# Altium integrated library Maxim Digital Potentiometers.IntLib: 1045 symbols (part 15 of 42)
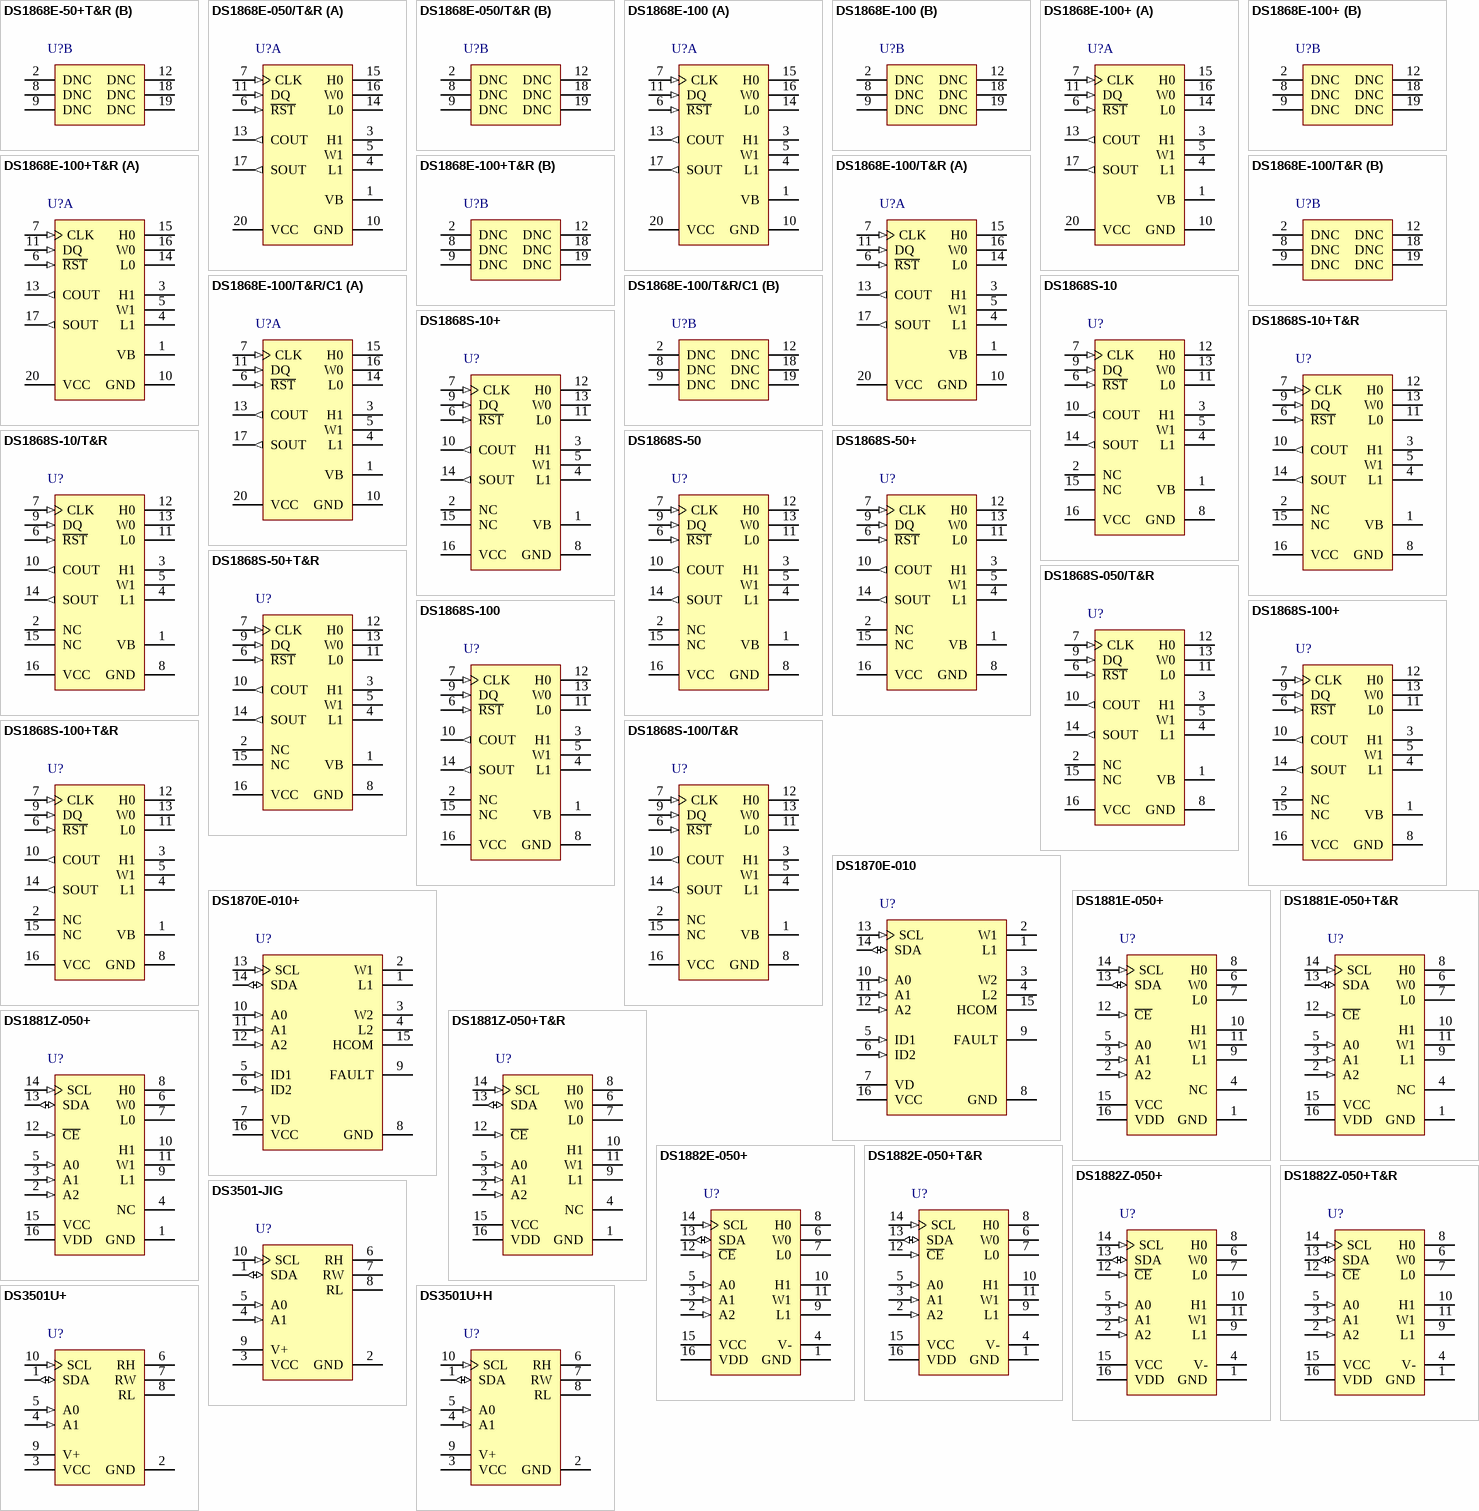
[diagram p43: symbols DS1868E-50+T&R to DS3501U+H]

## DS1881E-050+
designator U?
Dual, Audio Log Digital Potentiometer with I2C Control Interface, Non-Volatile, Log Taper, 64 Steps, -40 to 85 degC, 16-pin TSSOP (U16+1), Pb-Free; PartNumber: DS1881E-050+; DatasheetVersion: Rev. 0; PackageVersion: Rev. L, 07/2010; PackageReference: U16+1; PackageDescription: 16-Pin Thin Shrink Small-Outline Package (U16+1), Body 5 x 4.4 mm, Pitch 0.65 mm; Supplier 1: Digi-Key; Supplier Part Number 1: DS1881E-050+-ND; Supplier 2: Mouser; Supplier Part Number 2: 700-DS1881E-050; Applications: Audio Control, Car Stereo ,Notebook and PC Audio ,Portable Audio; Control Interface: I2C; Features: EEPROM Wiper Memory, Low THD+N and Crosstalk ,User-Configurable Attenuation Options ,Zero-Crossing Detector; Mounting Technology: Surface Mount; Code_JEDEC: MO-153; ComponentLink1Description: Manufacturer URL; ComponentLink1URL: http://www.maximintegrated.com/; ComponentLink2Description: Datasheet; ComponentLink2URL: http://datasheets.maximintegrated.com/en/ds/DS1881.pdf; ComponentLink3Description: Package Specification; ComponentLink3URL: http://pdfserv.maximintegrated.com/package_dwgs/21-0066.PDF
footprint MAXM-U16+1_N (SOP, 16-Leads, Body 5x4.4mm, Pitch 0.65mm, IPC Medium Density)
footprint MAXM-U16+1_L (SOP, 16-Leads, Body 5x4.4mm, Pitch 0.65mm, IPC High Density)
footprint MAXM-U16+1_M (SOP, 16-Leads, Body 5x4.4mm, Pitch 0.65mm, IPC Low Density)
pins: 1 GND (power) "Ground", 2 A2 (in) "I2C Address Inputs. Inputs A0, A1, and A2 determine the I2C slave address of the device.", 3 A1 (in) "I2C Address Inputs. Inputs A0, A1, and A2 determine the I2C slave address of the device.", 4 NC "No Connection", 5 A0 (in) "I2C Address Input. Inputs A0, A1, and A2 determine the I2C slave address of the device.", 6 W0 "Wiper Terminal for Potentiometer 0", 7 L0 "Low Terminal for Potentiometer 0", 8 H0 "High Terminal for Potentiometer 0", 9 L1 "Low Terminal for Potentiometer 1", 10 H1 "High Terminal for Potentiometer 1", 11 W1 "Wiper Terminal for Potentiometer 1", 12 ~{CE} (in) "Chip Enable. Enables SDA and SCL pins for I2C communication.", 13 SDA (io) "I2C Serial-Data Open-Drain I/O", 14 SCL (in) "I2C Serial-Clock Input", 15 VCC (power) "Analog Voltage Supply", 16 VDD (power) "Digital Voltage Supply"

## DS1881E-050+T&R
designator U?
Dual, Audio Log Digital Potentiometer with I2C Control Interface, Non-Volatile, Log Taper, 64 Steps, -40 to 85 degC, 16-pin TSSOP (U16+1), Pb-Free, Tape and Reel; PartNumber: DS1881E-050+T&R; DatasheetVersion: Rev. 0; PackageVersion: Rev. L, 07/2010; PackageReference: U16+1; PackageDescription: 16-Pin Thin Shrink Small-Outline Package (U16+1), Body 5 x 4.4 mm, Pitch 0.65 mm; Supplier 1: Digi-Key; Supplier Part Number 1: DS1881E-050+T&R-ND; Supplier 2: Mouser; Supplier Part Number 2: 700-DS1881E-050T&R; Applications: Audio Control, Car Stereo ,Notebook and PC Audio ,Portable Audio; Control Interface: I2C; Features: EEPROM Wiper Memory, Low THD+N and Crosstalk ,User-Configurable Attenuation Options ,Zero-Crossing Detector; Mounting Technology: Surface Mount; Code_JEDEC: MO-153; ComponentLink1Description: Manufacturer URL; ComponentLink1URL: http://www.maximintegrated.com/; ComponentLink2Description: Datasheet; ComponentLink2URL: http://datasheets.maximintegrated.com/en/ds/DS1881.pdf; ComponentLink3Description: Package Specification; ComponentLink3URL: http://pdfserv.maximintegrated.com/package_dwgs/21-0066.PDF
footprint MAXM-U16+1_N (SOP, 16-Leads, Body 5x4.4mm, Pitch 0.65mm, IPC Medium Density)
footprint MAXM-U16+1_L (SOP, 16-Leads, Body 5x4.4mm, Pitch 0.65mm, IPC High Density)
footprint MAXM-U16+1_M (SOP, 16-Leads, Body 5x4.4mm, Pitch 0.65mm, IPC Low Density)
pins: 1 GND (power) "Ground", 2 A2 (in) "I2C Address Inputs. Inputs A0, A1, and A2 determine the I2C slave address of the device.", 3 A1 (in) "I2C Address Inputs. Inputs A0, A1, and A2 determine the I2C slave address of the device.", 4 NC "No Connection", 5 A0 (in) "I2C Address Input. Inputs A0, A1, and A2 determine the I2C slave address of the device.", 6 W0 "Wiper Terminal for Potentiometer 0", 7 L0 "Low Terminal for Potentiometer 0", 8 H0 "High Terminal for Potentiometer 0", 9 L1 "Low Terminal for Potentiometer 1", 10 H1 "High Terminal for Potentiometer 1", 11 W1 "Wiper Terminal for Potentiometer 1", 12 ~{CE} (in) "Chip Enable. Enables SDA and SCL pins for I2C communication.", 13 SDA (io) "I2C Serial-Data Open-Drain I/O", 14 SCL (in) "I2C Serial-Clock Input", 15 VCC (power) "Analog Voltage Supply", 16 VDD (power) "Digital Voltage Supply"

## DS1881Z-050+
designator U?
Dual, Audio Log Digital Potentiometer with I2C Control Interface, Non-Volatile, Log Taper, 64 Steps, -40 to 85 degC, 16-pin SOIC(N) (S16+5), Pb-Free; PartNumber: DS1881Z-050+; DatasheetVersion: Rev. 0; PackageVersion: Rev. D, 10/2012; PackageReference: S16+5; PackageDescription: 16-Pin Small-Outline IC, Narrow (0.15in) (S16+5), Body 9.9 x 3.9 mm, Pitch 1.27 mm; Supplier 1: Digi-Key; Supplier Part Number 1: DS1881Z-050+-ND; Supplier 2: Mouser; Supplier Part Number 2: 700-DS1881Z-050; Applications: Audio Control, Car Stereo ,Notebook and PC Audio ,Portable Audio; Control Interface: I2C; Features: EEPROM Wiper Memory, Low THD+N and Crosstalk ,User-Configurable Attenuation Options ,Zero-Crossing Detector; Mounting Technology: Surface Mount; Code_JEDEC: MS012; ComponentLink1Description: Manufacturer URL; ComponentLink1URL: http://www.maximintegrated.com/; ComponentLink2Description: Datasheet; ComponentLink2URL: http://datasheets.maximintegrated.com/en/ds/DS1881.pdf; ComponentLink3Description: Package Specification; ComponentLink3URL: http://pdfserv.maximintegrated.com/package_dwgs/21-0041.PDF
footprint MAXM-S16+5_N (SOIC, 16-Leads, Body 9.9x3.9mm, Pitch 1.27mm, IPC Medium Density)
footprint MAXM-S16+5_L (SOIC, 16-Leads, Body 9.9x3.9mm, Pitch 1.27mm, IPC High Density)
footprint MAXM-S16+5_M (SOIC, 16-Leads, Body 9.9x3.9mm, Pitch 1.27mm, IPC Low Density)
pins: 1 GND (power) "Ground", 2 A2 (in) "I2C Address Inputs. Inputs A0, A1, and A2 determine the I2C slave address of the device.", 3 A1 (in) "I2C Address Inputs. Inputs A0, A1, and A2 determine the I2C slave address of the device.", 4 NC "No Connection", 5 A0 (in) "I2C Address Input. Inputs A0, A1, and A2 determine the I2C slave address of the device.", 6 W0 "Wiper Terminal for Potentiometer 0", 7 L0 "Low Terminal for Potentiometer 0", 8 H0 "High Terminal for Potentiometer 0", 9 L1 "Low Terminal for Potentiometer 1", 10 H1 "High Terminal for Potentiometer 1", 11 W1 "Wiper Terminal for Potentiometer 1", 12 ~{CE} (in) "Chip Enable. Enables SDA and SCL pins for I2C communication.", 13 SDA (io) "I2C Serial-Data Open-Drain I/O", 14 SCL (in) "I2C Serial-Clock Input", 15 VCC (power) "Analog Voltage Supply", 16 VDD (power) "Digital Voltage Supply"

## DS1881Z-050+T&R
designator U?
Dual, Audio Log Digital Potentiometer with I2C Control Interface, Non-Volatile, Log Taper, 64 Steps, -40 to 85 degC, 16-pin SOIC(N) (S16+5), Pb-Free, Tape and Reel; PartNumber: DS1881Z-050+T&R; DatasheetVersion: Rev. 0; PackageVersion: Rev. D, 10/2012; PackageReference: S16+5; PackageDescription: 16-Pin Small-Outline IC, Narrow (0.15in) (S16+5), Body 9.9 x 3.9 mm, Pitch 1.27 mm; Supplier 1: Digi-Key; Supplier Part Number 1: DS1881Z-050+T&R-ND; Supplier 2: Mouser; Supplier Part Number 2: 700-DS1881Z-050T&R; Applications: Audio Control, Car Stereo ,Notebook and PC Audio ,Portable Audio; Control Interface: I2C; Features: EEPROM Wiper Memory, Low THD+N and Crosstalk ,User-Configurable Attenuation Options ,Zero-Crossing Detector; Mounting Technology: Surface Mount; Code_JEDEC: MS012; ComponentLink1Description: Manufacturer URL; ComponentLink1URL: http://www.maximintegrated.com/; ComponentLink2Description: Datasheet; ComponentLink2URL: http://datasheets.maximintegrated.com/en/ds/DS1881.pdf; ComponentLink3Description: Package Specification; ComponentLink3URL: http://pdfserv.maximintegrated.com/package_dwgs/21-0041.PDF
footprint MAXM-S16+5_N (SOIC, 16-Leads, Body 9.9x3.9mm, Pitch 1.27mm, IPC Medium Density)
footprint MAXM-S16+5_L (SOIC, 16-Leads, Body 9.9x3.9mm, Pitch 1.27mm, IPC High Density)
footprint MAXM-S16+5_M (SOIC, 16-Leads, Body 9.9x3.9mm, Pitch 1.27mm, IPC Low Density)
pins: 1 GND (power) "Ground", 2 A2 (in) "I2C Address Inputs. Inputs A0, A1, and A2 determine the I2C slave address of the device.", 3 A1 (in) "I2C Address Inputs. Inputs A0, A1, and A2 determine the I2C slave address of the device.", 4 NC "No Connection", 5 A0 (in) "I2C Address Input. Inputs A0, A1, and A2 determine the I2C slave address of the device.", 6 W0 "Wiper Terminal for Potentiometer 0", 7 L0 "Low Terminal for Potentiometer 0", 8 H0 "High Terminal for Potentiometer 0", 9 L1 "Low Terminal for Potentiometer 1", 10 H1 "High Terminal for Potentiometer 1", 11 W1 "Wiper Terminal for Potentiometer 1", 12 ~{CE} (in) "Chip Enable. Enables SDA and SCL pins for I2C communication.", 13 SDA (io) "I2C Serial-Data Open-Drain I/O", 14 SCL (in) "I2C Serial-Clock Input", 15 VCC (power) "Analog Voltage Supply", 16 VDD (power) "Digital Voltage Supply"

## DS1882E-050+
designator U?
Dual Log Audio Digital Potentiometer with I2C Control Interface, Non-Volatile, Log Taper, 64 Steps, -40 to 85 degC, 16-pin TSSOP (U16+1), Pb-Free; PartNumber: DS1882E-050+; Industry Qualified: Automotive - General; DatasheetVersion: Rev. 0; PackageVersion: Rev. L, 07/2010; PackageReference: U16+1; PackageDescription: 16-Pin Thin Shrink Small-Outline Package (U16+1), Body 5 x 4.4 mm, Pitch 0.65 mm; Supplier 1: Digi-Key; Supplier Part Number 1: DS1882E-050+-ND; Supplier 2: Mouser; Supplier Part Number 2: 700-DS1882E-050; Applications: Audio Control, Car Stereo ,Notebook and PC Audio ,Portable Audio ,Portable Consumer; Control Interface: I2C; Features: +/-7V Signal Levels, EEPROM Wiper Memory ,Low THD+N and Crosstalk ,User-Configurable Attenuation Options ,Zero-Crossing Detector; Mounting Technology: Surface Mount; Code_JEDEC: MO-153; ComponentLink1Description: Manufacturer URL; ComponentLink1URL: http://www.maximintegrated.com/; ComponentLink2Description: Datasheet; ComponentLink2URL: http://datasheets.maximintegrated.com/en/ds/DS1882.pdf; ComponentLink3Description: Package Specification; ComponentLink3URL: http://pdfserv.maximintegrated.com/package_dwgs/21-0066.PDF
footprint MAXM-U16+1_N (SOP, 16-Leads, Body 5x4.4mm, Pitch 0.65mm, IPC Medium Density)
footprint MAXM-U16+1_L (SOP, 16-Leads, Body 5x4.4mm, Pitch 0.65mm, IPC High Density)
footprint MAXM-U16+1_M (SOP, 16-Leads, Body 5x4.4mm, Pitch 0.65mm, IPC Low Density)
pins: 1 GND (power) "Ground", 2 A2 (in) "Address Pin", 3 A1 (in) "Address Pin", 4 V- (power) "-12V Supply (substrate bias)", 5 A0 (in) "Address Pin", 6 W0 "Wiper Terminals", 7 L0 "Low-end Terminals", 8 H0 "High-end Terminals", 9 L1 "Low-end Terminals", 10 H1 "High-end Terminals", 11 W1 "Wiper Terminals", 12 ~{CE} (in) "2-Wire Interface Enable", 13 SDA (io) "2-Wire Serial Data Input/Output", 14 SCL (in) "2-Wire Clock Input", 15 VCC (power) "+12V Supply", 16 VDD (power) "5V Digital Supply"

## DS1882E-050+T&R
designator U?
Dual Log Audio Digital Potentiometer with I2C Control Interface, Non-Volatile, Log Taper, 64 Steps, -40 to 85 degC, 16-pin TSSOP (U16+1), Pb-Free, Tape and Reel; PartNumber: DS1882E-050+T&R; Industry Qualified: Automotive - General; DatasheetVersion: Rev. 0; PackageVersion: Rev. L, 07/2010; PackageReference: U16+1; PackageDescription: 16-Pin Thin Shrink Small-Outline Package (U16+1), Body 5 x 4.4 mm, Pitch 0.65 mm; Supplier 1: Digi-Key; Supplier Part Number 1: DS1882E-050+T&R-ND; Supplier 2: Mouser; Supplier Part Number 2: 700-DS1882E-050T&R; Applications: Audio Control, Car Stereo ,Notebook and PC Audio ,Portable Audio ,Portable Consumer; Control Interface: I2C; Features: +/-7V Signal Levels, EEPROM Wiper Memory ,Low THD+N and Crosstalk ,User-Configurable Attenuation Options ,Zero-Crossing Detector; Mounting Technology: Surface Mount; Code_JEDEC: MO-153; ComponentLink1Description: Manufacturer URL; ComponentLink1URL: http://www.maximintegrated.com/; ComponentLink2Description: Datasheet; ComponentLink2URL: http://datasheets.maximintegrated.com/en/ds/DS1882.pdf; ComponentLink3Description: Package Specification; ComponentLink3URL: http://pdfserv.maximintegrated.com/package_dwgs/21-0066.PDF
footprint MAXM-U16+1_N (SOP, 16-Leads, Body 5x4.4mm, Pitch 0.65mm, IPC Medium Density)
footprint MAXM-U16+1_L (SOP, 16-Leads, Body 5x4.4mm, Pitch 0.65mm, IPC High Density)
footprint MAXM-U16+1_M (SOP, 16-Leads, Body 5x4.4mm, Pitch 0.65mm, IPC Low Density)
pins: 1 GND (power) "Ground", 2 A2 (in) "Address Pin", 3 A1 (in) "Address Pin", 4 V- (power) "-12V Supply (substrate bias)", 5 A0 (in) "Address Pin", 6 W0 "Wiper Terminals", 7 L0 "Low-end Terminals", 8 H0 "High-end Terminals", 9 L1 "Low-end Terminals", 10 H1 "High-end Terminals", 11 W1 "Wiper Terminals", 12 ~{CE} (in) "2-Wire Interface Enable", 13 SDA (io) "2-Wire Serial Data Input/Output", 14 SCL (in) "2-Wire Clock Input", 15 VCC (power) "+12V Supply", 16 VDD (power) "5V Digital Supply"

## DS1882Z-050+
designator U?
Dual Log Audio Digital Potentiometer with I2C Control Interface, Non-Volatile, Log Taper, 64 Steps, -40 to 85 degC, 16-pin SOIC (S16+5), Pb-Free; PartNumber: DS1882Z-050+; Industry Qualified: Automotive - General; DatasheetVersion: Rev. 0; PackageVersion: Rev. D, 10/2012; PackageReference: S16+5; PackageDescription: 16-Pin Small-Outline IC, Narrow (0.15in) (S16+5), Body 9.9 x 3.9 mm, Pitch 1.27 mm; Supplier 1: Digi-Key; Supplier Part Number 1: DS1882Z-050+-ND; Supplier 2: Mouser; Supplier Part Number 2: 700-DS1882Z-050; Applications: Audio Control, Car Stereo ,Notebook and PC Audio ,Portable Audio ,Portable Consumer; Control Interface: I2C; Features: +/-7V Signal Levels, EEPROM Wiper Memory ,Low THD+N and Crosstalk ,User-Configurable Attenuation Options ,Zero-Crossing Detector; Mounting Technology: Surface Mount; Code_JEDEC: MS012; ComponentLink1Description: Manufacturer URL; ComponentLink1URL: http://www.maximintegrated.com/; ComponentLink2Description: Datasheet; ComponentLink2URL: http://datasheets.maximintegrated.com/en/ds/DS1882.pdf; ComponentLink3Description: Package Specification; ComponentLink3URL: http://pdfserv.maximintegrated.com/package_dwgs/21-0041.PDF
footprint MAXM-S16+5_N (SOIC, 16-Leads, Body 9.9x3.9mm, Pitch 1.27mm, IPC Medium Density)
footprint MAXM-S16+5_L (SOIC, 16-Leads, Body 9.9x3.9mm, Pitch 1.27mm, IPC High Density)
footprint MAXM-S16+5_M (SOIC, 16-Leads, Body 9.9x3.9mm, Pitch 1.27mm, IPC Low Density)
pins: 1 GND (power) "Ground", 2 A2 (in) "Address Pin", 3 A1 (in) "Address Pin", 4 V- (power) "-12V Supply (substrate bias)", 5 A0 (in) "Address Pin", 6 W0 "Wiper Terminals", 7 L0 "Low-end Terminals", 8 H0 "High-end Terminals", 9 L1 "Low-end Terminals", 10 H1 "High-end Terminals", 11 W1 "Wiper Terminals", 12 ~{CE} (in) "2-Wire Interface Enable", 13 SDA (io) "2-Wire Serial Data Input/Output", 14 SCL (in) "2-Wire Clock Input", 15 VCC (power) "+12V Supply", 16 VDD (power) "5V Digital Supply"

## DS1882Z-050+T&R
designator U?
Dual Log Audio Digital Potentiometer with I2C Control Interface, Non-Volatile, Log Taper, 64 Steps, -40 to 85 degC, 16-pin SOIC (S16+5), Pb-Free, Tape and Reel; PartNumber: DS1882Z-050+T&R; Industry Qualified: Automotive - General; DatasheetVersion: Rev. 0; PackageVersion: Rev. D, 10/2012; PackageReference: S16+5; PackageDescription: 16-Pin Small-Outline IC, Narrow (0.15in) (S16+5), Body 9.9 x 3.9 mm, Pitch 1.27 mm; Supplier 1: Digi-Key; Supplier Part Number 1: DS1882Z-050+T&R-ND; Supplier 2: Mouser; Supplier Part Number 2: 700-DS1882Z-050T&R; Applications: Audio Control, Car Stereo ,Notebook and PC Audio ,Portable Audio ,Portable Consumer; Control Interface: I2C; Features: +/-7V Signal Levels, EEPROM Wiper Memory ,Low THD+N and Crosstalk ,User-Configurable Attenuation Options ,Zero-Crossing Detector; Mounting Technology: Surface Mount; Code_JEDEC: MS012; ComponentLink1Description: Manufacturer URL; ComponentLink1URL: http://www.maximintegrated.com/; ComponentLink2Description: Datasheet; ComponentLink2URL: http://datasheets.maximintegrated.com/en/ds/DS1882.pdf; ComponentLink3Description: Package Specification; ComponentLink3URL: http://pdfserv.maximintegrated.com/package_dwgs/21-0041.PDF
footprint MAXM-S16+5_N (SOIC, 16-Leads, Body 9.9x3.9mm, Pitch 1.27mm, IPC Medium Density)
footprint MAXM-S16+5_L (SOIC, 16-Leads, Body 9.9x3.9mm, Pitch 1.27mm, IPC High Density)
footprint MAXM-S16+5_M (SOIC, 16-Leads, Body 9.9x3.9mm, Pitch 1.27mm, IPC Low Density)
pins: 1 GND (power) "Ground", 2 A2 (in) "Address Pin", 3 A1 (in) "Address Pin", 4 V- (power) "-12V Supply (substrate bias)", 5 A0 (in) "Address Pin", 6 W0 "Wiper Terminals", 7 L0 "Low-end Terminals", 8 H0 "High-end Terminals", 9 L1 "Low-end Terminals", 10 H1 "High-end Terminals", 11 W1 "Wiper Terminals", 12 ~{CE} (in) "2-Wire Interface Enable", 13 SDA (io) "2-Wire Serial Data Input/Output", 14 SCL (in) "2-Wire Clock Input", 15 VCC (power) "+12V Supply", 16 VDD (power) "5V Digital Supply"

## DS3501-JIG
designator U?
High-Voltage NV Potentiometer with Temperature Sensor and LUT with I2C Control Interface, Non-Volatile, Linear Taper, 128 Steps, -40 to 85 degC, 10-pin uMAX (U10-2); PartNumber: DS3501-JIG; Industry Qualified: Automotive - General; DatasheetVersion: Rev. 0; PackageVersion: Rev. L, 07/2008; PackageReference: U10-2; PackageDescription: 10-Pin Micro-MAX, Thin Shrink Small-Outline (U10-2), Body 3 x 3 mm, Pitch 0.5 mm; Supplier 1: Mouser; Supplier Part Number 1: N/A; Applications: Resistance-Temp. Lookup Table, Vcom Adjustment; Control Interface: I2C; Features: 36 Byte Lookup Table, On-Chip Temperature Sensor and ADC; Mounting Technology: Surface Mount; Code_JEDEC: MO-187; ComponentLink1Description: Manufacturer URL; ComponentLink1URL: http://www.maximintegrated.com/; ComponentLink2Description: Datasheet; ComponentLink2URL: http://datasheets.maximintegrated.com/en/ds/DS3501.pdf; ComponentLink3Description: Package Specification; ComponentLink3URL: http://pdfserv.maximintegrated.com/package_dwgs/21-0061.PDF
footprint MAXM-U10-2_N (SOP, 10-Leads, Body 3x3mm, Pitch 0.5mm, IPC Medium Density)
footprint MAXM-U10-2_L (SOP, 10-Leads, Body 3x3mm, Pitch 0.5mm, IPC High Density)
footprint MAXM-U10-2_M (SOP, 10-Leads, Body 3x3mm, Pitch 0.5mm, IPC Low Density)
pins: 1 SDA (io) "I2C Serial Data. Input/output for I2C data.", 2 GND (power) "Ground Terminal", 3 VCC (power) "Supply Voltage Terminal", 4 A1 (in) "Address Select Inputs. Determines I2C slave address. Slave address is 01010A1A0X. (See the Slave Address Byte and Address Pins section for details).", 5 A0 (in) "Address Select Inputs. Determines I2C slave address. Slave address is 01010A1A0X. (See the Slave Address Byte and Address Pins section for details).", 6 RH "High Terminal of Potentiometer", 7 RW "Wiper Terminal of Potentiometer", 8 RL "Low Terminal of Potentiometer", 9 V+ (power) "Wiper Bias Voltage", 10 SCL (in) "I2C Serial Clock. Input for I2C clock."

## DS3501U+
designator U?
High-Voltage NV Potentiometer with I2C Control Interface, Non-Volatile +Temp. LUT, Linear Taper, 128 Steps, -40 to 85 degC, 10-pin uMAX (U10+2), Pb-Free; PartNumber: DS3501U+; Industry Qualified: Automotive - General; DatasheetVersion: Rev. 0; PackageVersion: Rev. L, 07/2008; PackageReference: U10+2; PackageDescription: 10-Pin Micro-MAX, Thin Shrink Small-Outline (U10+2), Body 3 x 3 mm, Pitch 0.5 mm; Supplier 1: Digi-Key; Supplier Part Number 1: DS3501U+-ND; Supplier 2: Mouser; Supplier Part Number 2: 700-DS3501U; Applications: Resistance-Temp. Lookup Table, Vcom Adjustment; Control Interface: I2C; Features: 36 Byte Lookup Table, On-Chip Temperature Sensor and ADC; Mounting Technology: Surface Mount; Code_JEDEC: MO-187; ComponentLink1Description: Manufacturer URL; ComponentLink1URL: http://www.maximintegrated.com/; ComponentLink2Description: Datasheet; ComponentLink2URL: http://datasheets.maximintegrated.com/en/ds/DS3501.pdf; ComponentLink3Description: Package Specification; ComponentLink3URL: http://pdfserv.maximintegrated.com/package_dwgs/21-0061.PDF
footprint MAXM-U10+2_N (SOP, 10-Leads, Body 3x3mm, Pitch 0.5mm, IPC Medium Density)
footprint MAXM-U10+2_L (SOP, 10-Leads, Body 3x3mm, Pitch 0.5mm, IPC High Density)
footprint MAXM-U10+2_M (SOP, 10-Leads, Body 3x3mm, Pitch 0.5mm, IPC Low Density)
pins: 1 SDA (io) "I2C Serial Data. Input/output for I2C data.", 2 GND (power) "Ground Terminal", 3 VCC (power) "Supply Voltage Terminal", 4 A1 (in) "Address Select Inputs. Determines I2C slave address. Slave address is 01010A1A0X. (See the Slave Address Byte and Address Pins section for details).", 5 A0 (in) "Address Select Inputs. Determines I2C slave address. Slave address is 01010A1A0X. (See the Slave Address Byte and Address Pins section for details).", 6 RH "High Terminal of Potentiometer", 7 RW "Wiper Terminal of Potentiometer", 8 RL "Low Terminal of Potentiometer", 9 V+ (power) "Wiper Bias Voltage", 10 SCL (in) "I2C Serial Clock. Input for I2C clock."

## DS3501U+H
designator U?
High-Voltage NV Potentiometer with I2C Control Interface, Non-Volatile +Temp. LUT, Linear Taper, 128 Steps, -40 to 85 degC, 10-pin uMAX (U10+2), Pb-Free; PartNumber: DS3501U+H; Industry Qualified: Automotive - General; DatasheetVersion: Rev. 0; PackageVersion: Rev. L, 07/2008; PackageReference: U10+2; PackageDescription: 10-Pin Micro-MAX, Thin Shrink Small-Outline (U10+2), Body 3 x 3 mm, Pitch 0.5 mm; Supplier 1: Digi-Key; Supplier Part Number 1: DS3501U+H-ND; Supplier 2: Mouser; Supplier Part Number 2: 700-DS3501UH; Applications: Resistance-Temp. Lookup Table, Vcom Adjustment; Control Interface: I2C; Features: 36 Byte Lookup Table, On-Chip Temperature Sensor and ADC; Mounting Technology: Surface Mount; Code_JEDEC: MO-187; ComponentLink1Description: Manufacturer URL; ComponentLink1URL: http://www.maximintegrated.com/; ComponentLink2Description: Datasheet; ComponentLink2URL: http://datasheets.maximintegrated.com/en/ds/DS3501.pdf; ComponentLink3Description: Package Specification; ComponentLink3URL: http://pdfserv.maximintegrated.com/package_dwgs/21-0061.PDF
footprint MAXM-U10+2_N (SOP, 10-Leads, Body 3x3mm, Pitch 0.5mm, IPC Medium Density)
footprint MAXM-U10+2_L (SOP, 10-Leads, Body 3x3mm, Pitch 0.5mm, IPC High Density)
footprint MAXM-U10+2_M (SOP, 10-Leads, Body 3x3mm, Pitch 0.5mm, IPC Low Density)
pins: 1 SDA (io) "I2C Serial Data. Input/output for I2C data.", 2 GND (power) "Ground Terminal", 3 VCC (power) "Supply Voltage Terminal", 4 A1 (in) "Address Select Inputs. Determines I2C slave address. Slave address is 01010A1A0X. (See the Slave Address Byte and Address Pins section for details).", 5 A0 (in) "Address Select Inputs. Determines I2C slave address. Slave address is 01010A1A0X. (See the Slave Address Byte and Address Pins section for details).", 6 RH "High Terminal of Potentiometer", 7 RW "Wiper Terminal of Potentiometer", 8 RL "Low Terminal of Potentiometer", 9 V+ (power) "Wiper Bias Voltage", 10 SCL (in) "I2C Serial Clock. Input for I2C clock."

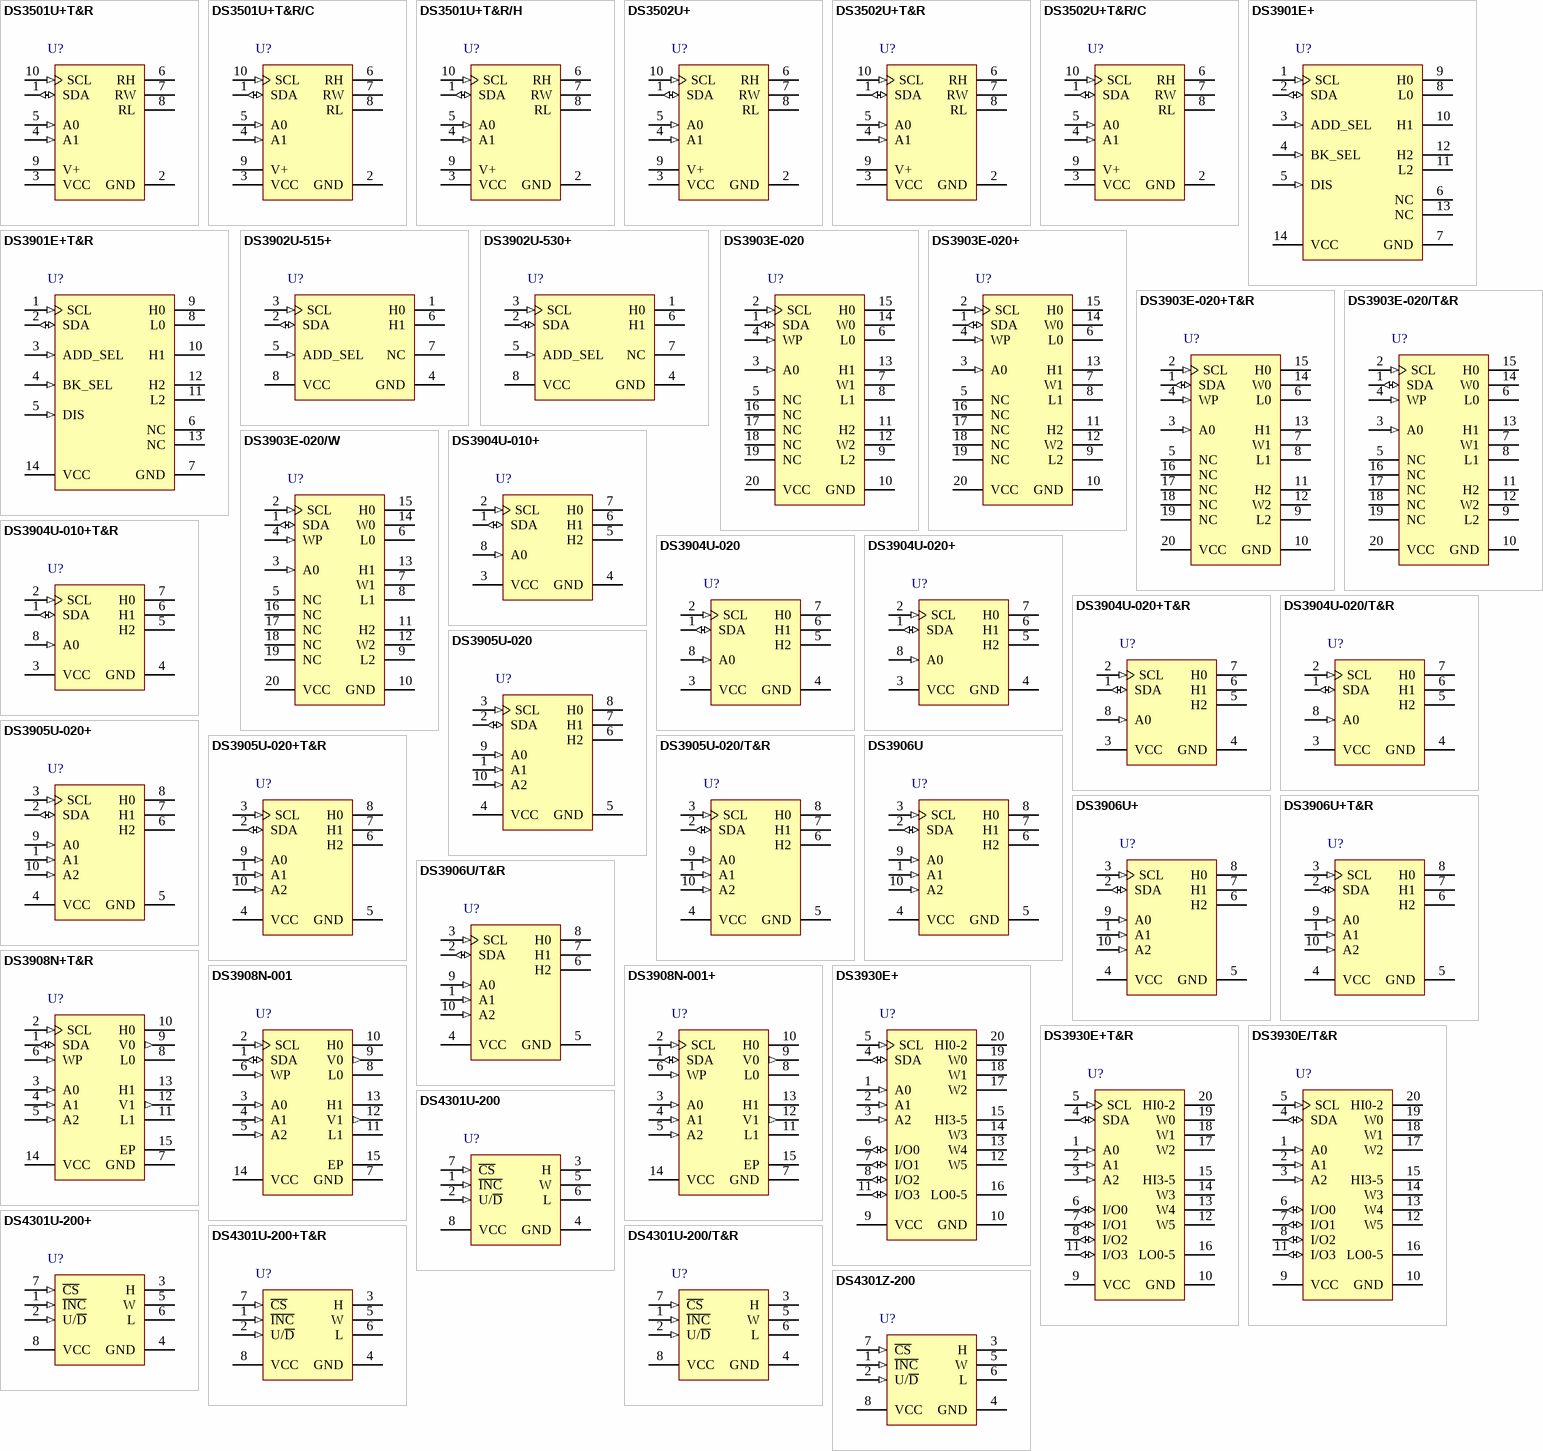
[diagram p11: symbols DS3501U+T&R to DS4301Z-200]

## DS3501U+T&R
designator U?
High-Voltage NV Potentiometer with I2C Control Interface, Non-Volatile +Temp. LUT, Linear Taper, 128 Steps, -40 to 85 degC, 10-pin uMAX (U10+2), Pb-Free, Tape and Reel; PartNumber: DS3501U+T&R; Industry Qualified: Automotive - General; DatasheetVersion: Rev. 0; PackageVersion: Rev. L, 07/2008; PackageReference: U10+2; PackageDescription: 10-Pin Micro-MAX, Thin Shrink Small-Outline (U10+2), Body 3 x 3 mm, Pitch 0.5 mm; Supplier 1: Digi-Key; Supplier Part Number 1: DS3501U+T&R-ND; Supplier 2: Mouser; Supplier Part Number 2: 700-DS3501UT&R; Applications: Resistance-Temp. Lookup Table, Vcom Adjustment; Control Interface: I2C; Features: 36 Byte Lookup Table, On-Chip Temperature Sensor and ADC; Mounting Technology: Surface Mount; Code_JEDEC: MO-187; ComponentLink1Description: Manufacturer URL; ComponentLink1URL: http://www.maximintegrated.com/; ComponentLink2Description: Datasheet; ComponentLink2URL: http://datasheets.maximintegrated.com/en/ds/DS3501.pdf; ComponentLink3Description: Package Specification; ComponentLink3URL: http://pdfserv.maximintegrated.com/package_dwgs/21-0061.PDF
footprint MAXM-U10+2_N (SOP, 10-Leads, Body 3x3mm, Pitch 0.5mm, IPC Medium Density)
footprint MAXM-U10+2_L (SOP, 10-Leads, Body 3x3mm, Pitch 0.5mm, IPC High Density)
footprint MAXM-U10+2_M (SOP, 10-Leads, Body 3x3mm, Pitch 0.5mm, IPC Low Density)
pins: 1 SDA (io) "I2C Serial Data. Input/output for I2C data.", 2 GND (power) "Ground Terminal", 3 VCC (power) "Supply Voltage Terminal", 4 A1 (in) "Address Select Inputs. Determines I2C slave address. Slave address is 01010A1A0X. (See the Slave Address Byte and Address Pins section for details).", 5 A0 (in) "Address Select Inputs. Determines I2C slave address. Slave address is 01010A1A0X. (See the Slave Address Byte and Address Pins section for details).", 6 RH "High Terminal of Potentiometer", 7 RW "Wiper Terminal of Potentiometer", 8 RL "Low Terminal of Potentiometer", 9 V+ (power) "Wiper Bias Voltage", 10 SCL (in) "I2C Serial Clock. Input for I2C clock."

## DS3501U+T&R/C
designator U?
High-Voltage NV Potentiometer with I2C Control Interface, Non-Volatile +Temp. LUT, Linear Taper, 128 Steps, -40 to 85 degC, 10-pin uMAX (U10+2), Pb-Free, Tape and Reel; PartNumber: DS3501U+T&R/C; Industry Qualified: Automotive - General; DatasheetVersion: Rev. 0; PackageVersion: Rev. L, 07/2008; PackageReference: U10+2; PackageDescription: 10-Pin Micro-MAX, Thin Shrink Small-Outline (U10+2), Body 3 x 3 mm, Pitch 0.5 mm; Supplier 1: Digi-Key; Supplier Part Number 1: DS3501U+T&R/C-ND; Supplier 2: Mouser; Supplier Part Number 2: 700-DS3501UT&R/C; Applications: Resistance-Temp. Lookup Table, Vcom Adjustment; Control Interface: I2C; Features: 36 Byte Lookup Table, On-Chip Temperature Sensor and ADC; Mounting Technology: Surface Mount; Code_JEDEC: MO-187; ComponentLink1Description: Manufacturer URL; ComponentLink1URL: http://www.maximintegrated.com/; ComponentLink2Description: Datasheet; ComponentLink2URL: http://datasheets.maximintegrated.com/en/ds/DS3501.pdf; ComponentLink3Description: Package Specification; ComponentLink3URL: http://pdfserv.maximintegrated.com/package_dwgs/21-0061.PDF
footprint MAXM-U10+2_N (SOP, 10-Leads, Body 3x3mm, Pitch 0.5mm, IPC Medium Density)
footprint MAXM-U10+2_L (SOP, 10-Leads, Body 3x3mm, Pitch 0.5mm, IPC High Density)
footprint MAXM-U10+2_M (SOP, 10-Leads, Body 3x3mm, Pitch 0.5mm, IPC Low Density)
pins: 1 SDA (io) "I2C Serial Data. Input/output for I2C data.", 2 GND (power) "Ground Terminal", 3 VCC (power) "Supply Voltage Terminal", 4 A1 (in) "Address Select Inputs. Determines I2C slave address. Slave address is 01010A1A0X. (See the Slave Address Byte and Address Pins section for details).", 5 A0 (in) "Address Select Inputs. Determines I2C slave address. Slave address is 01010A1A0X. (See the Slave Address Byte and Address Pins section for details).", 6 RH "High Terminal of Potentiometer", 7 RW "Wiper Terminal of Potentiometer", 8 RL "Low Terminal of Potentiometer", 9 V+ (power) "Wiper Bias Voltage", 10 SCL (in) "I2C Serial Clock. Input for I2C clock."

## DS3501U+T&R/H
designator U?
High-Voltage NV Potentiometer with I2C Control Interface, Non-Volatile +Temp. LUT, Linear Taper, 128 Steps, -40 to 85 degC, 10-pin uMAX (U10+2), Pb-Free, Tape and Reel; PartNumber: DS3501U+T&R/H; Industry Qualified: Automotive - General; DatasheetVersion: Rev. 0; PackageVersion: Rev. L, 07/2008; PackageReference: U10+2; PackageDescription: 10-Pin Micro-MAX, Thin Shrink Small-Outline (U10+2), Body 3 x 3 mm, Pitch 0.5 mm; Supplier 1: Digi-Key; Supplier Part Number 1: DS3501U+T&R/H-ND; Supplier 2: Mouser; Supplier Part Number 2: 700-DS3501UT&R/H; Applications: Resistance-Temp. Lookup Table, Vcom Adjustment; Control Interface: I2C; Features: 36 Byte Lookup Table, On-Chip Temperature Sensor and ADC; Mounting Technology: Surface Mount; Code_JEDEC: MO-187; ComponentLink1Description: Manufacturer URL; ComponentLink1URL: http://www.maximintegrated.com/; ComponentLink2Description: Datasheet; ComponentLink2URL: http://datasheets.maximintegrated.com/en/ds/DS3501.pdf; ComponentLink3Description: Package Specification; ComponentLink3URL: http://pdfserv.maximintegrated.com/package_dwgs/21-0061.PDF
footprint MAXM-U10+2_N (SOP, 10-Leads, Body 3x3mm, Pitch 0.5mm, IPC Medium Density)
footprint MAXM-U10+2_L (SOP, 10-Leads, Body 3x3mm, Pitch 0.5mm, IPC High Density)
footprint MAXM-U10+2_M (SOP, 10-Leads, Body 3x3mm, Pitch 0.5mm, IPC Low Density)
pins: 1 SDA (io) "I2C Serial Data. Input/output for I2C data.", 2 GND (power) "Ground Terminal", 3 VCC (power) "Supply Voltage Terminal", 4 A1 (in) "Address Select Inputs. Determines I2C slave address. Slave address is 01010A1A0X. (See the Slave Address Byte and Address Pins section for details).", 5 A0 (in) "Address Select Inputs. Determines I2C slave address. Slave address is 01010A1A0X. (See the Slave Address Byte and Address Pins section for details).", 6 RH "High Terminal of Potentiometer", 7 RW "Wiper Terminal of Potentiometer", 8 RL "Low Terminal of Potentiometer", 9 V+ (power) "Wiper Bias Voltage", 10 SCL (in) "I2C Serial Clock. Input for I2C clock."

## DS3502U+
designator U?
High-Voltage NV I2C Potentiometer with I2C Control Interface, Non-Volatile, Linear Taper, 128 Steps, -40 to 85 degC, 10-pin uMAX (U10+2), Pb-Free; PartNumber: DS3502U+; DatasheetVersion: Rev. 1; PackageVersion: Rev. L, 07/2008; PackageReference: U10+2; PackageDescription: 10-Pin Micro-MAX, Thin Shrink Small-Outline (U10+2), Body 3 x 3 mm, Pitch 0.5 mm; Supplier 1: Digi-Key; Supplier Part Number 1: DS3502U+-ND; Supplier 2: Mouser; Supplier Part Number 2: 700-DS3502U; Applications: Resistance-Temp. Lookup Table, Vcom Adjustment; Control Interface: I2C; Features: 4 Separate I2C Addresses, 36 Byte Lookup Table ,On-Chip Temperature Sensor and ADC; Mounting Technology: Surface Mount; Code_JEDEC: MO-187; ComponentLink1Description: Manufacturer URL; ComponentLink1URL: http://www.maximintegrated.com/; ComponentLink2Description: Datasheet; ComponentLink2URL: http://datasheets.maximintegrated.com/en/ds/DS3502.pdf; ComponentLink3Description: Package Specification; ComponentLink3URL: http://pdfserv.maximintegrated.com/package_dwgs/21-0061.PDF
footprint MAXM-U10+2_N (SOP, 10-Leads, Body 3x3mm, Pitch 0.5mm, IPC Medium Density)
footprint MAXM-U10+2_L (SOP, 10-Leads, Body 3x3mm, Pitch 0.5mm, IPC High Density)
footprint MAXM-U10+2_M (SOP, 10-Leads, Body 3x3mm, Pitch 0.5mm, IPC Low Density)
pins: 1 SDA (io) "I2C Serial Data. Input/output for I2C data.", 2 GND (power) "Ground Terminal", 3 VCC (power) "Supply Voltage Terminal", 4 A1 (in) "Address Select Inputs. Determines I2C slave address. Slave address is 01010A1A0X. (See the Slave Address Byte and Address Pins section for details).", 5 A0 (in) "Address Select Inputs. Determines I2C slave address. Slave address is 01010A1A0X. (See the Slave Address Byte and Address Pins section for details).", 6 RH "High Terminal of Potentiometer", 7 RW "Wiper Terminal of Potentiometer", 8 RL "Low Terminal of Potentiometer", 9 V+ (power) "Wiper Bias Voltage", 10 SCL (in) "I2C Serial Clock. Input for I2C clock."

## DS3502U+T&R
designator U?
High-Voltage NV I2C Potentiometer with I2C Control Interface, Non-Volatile, Linear Taper, 128 Steps, -40 to 85 degC, 10-pin uMAX (U10+2), Pb-Free, Tape and Reel; PartNumber: DS3502U+T&R; DatasheetVersion: Rev. 1; PackageVersion: Rev. L, 07/2008; PackageReference: U10+2; PackageDescription: 10-Pin Micro-MAX, Thin Shrink Small-Outline (U10+2), Body 3 x 3 mm, Pitch 0.5 mm; Supplier 1: Digi-Key; Supplier Part Number 1: DS3502U+T&R-ND; Supplier 2: Mouser; Supplier Part Number 2: 700-DS3502UT&R; Applications: Resistance-Temp. Lookup Table, Vcom Adjustment; Control Interface: I2C; Features: 4 Separate I2C Addresses, 36 Byte Lookup Table ,On-Chip Temperature Sensor and ADC; Mounting Technology: Surface Mount; Code_JEDEC: MO-187; ComponentLink1Description: Manufacturer URL; ComponentLink1URL: http://www.maximintegrated.com/; ComponentLink2Description: Datasheet; ComponentLink2URL: http://datasheets.maximintegrated.com/en/ds/DS3502.pdf; ComponentLink3Description: Package Specification; ComponentLink3URL: http://pdfserv.maximintegrated.com/package_dwgs/21-0061.PDF
footprint MAXM-U10+2_N (SOP, 10-Leads, Body 3x3mm, Pitch 0.5mm, IPC Medium Density)
footprint MAXM-U10+2_L (SOP, 10-Leads, Body 3x3mm, Pitch 0.5mm, IPC High Density)
footprint MAXM-U10+2_M (SOP, 10-Leads, Body 3x3mm, Pitch 0.5mm, IPC Low Density)
pins: 1 SDA (io) "I2C Serial Data. Input/output for I2C data.", 2 GND (power) "Ground Terminal", 3 VCC (power) "Supply Voltage Terminal", 4 A1 (in) "Address Select Inputs. Determines I2C slave address. Slave address is 01010A1A0X. (See the Slave Address Byte and Address Pins section for details).", 5 A0 (in) "Address Select Inputs. Determines I2C slave address. Slave address is 01010A1A0X. (See the Slave Address Byte and Address Pins section for details).", 6 RH "High Terminal of Potentiometer", 7 RW "Wiper Terminal of Potentiometer", 8 RL "Low Terminal of Potentiometer", 9 V+ (power) "Wiper Bias Voltage", 10 SCL (in) "I2C Serial Clock. Input for I2C clock."

## DS3502U+T&R/C
designator U?
High-Voltage NV I2C Potentiometer with I2C Control Interface, Non-Volatile, Linear Taper, 128 Steps, 0 to 70 degC, 10-pin uMAX (U10+2), Pb-Free, Tape and Reel; PartNumber: DS3502U+T&R/C; DatasheetVersion: Rev. 1; PackageVersion: Rev. L, 07/2008; PackageReference: U10+2; PackageDescription: 10-Pin Micro-MAX, Thin Shrink Small-Outline (U10+2), Body 3 x 3 mm, Pitch 0.5 mm; Supplier 1: Digi-Key; Supplier Part Number 1: DS3502U+T&R/C-ND; Supplier 2: Mouser; Supplier Part Number 2: 700-DS3502U+T&R/C; Applications: Resistance-Temp. Lookup Table, Vcom Adjustment; Control Interface: I2C; Features: 4 Separate I2C Addresses, 36 Byte Lookup Table ,On-Chip Temperature Sensor and ADC; Mounting Technology: Surface Mount; Code_JEDEC: MO-187; ComponentLink1Description: Manufacturer URL; ComponentLink1URL: http://www.maximintegrated.com/; ComponentLink2Description: Datasheet; ComponentLink2URL: http://datasheets.maximintegrated.com/en/ds/DS3502.pdf; ComponentLink3Description: Package Specification; ComponentLink3URL: http://pdfserv.maximintegrated.com/package_dwgs/21-0061.PDF
footprint MAXM-U10+2_N (SOP, 10-Leads, Body 3x3mm, Pitch 0.5mm, IPC Medium Density)
footprint MAXM-U10+2_L (SOP, 10-Leads, Body 3x3mm, Pitch 0.5mm, IPC High Density)
footprint MAXM-U10+2_M (SOP, 10-Leads, Body 3x3mm, Pitch 0.5mm, IPC Low Density)
pins: 1 SDA (io) "I2C Serial Data. Input/output for I2C data.", 2 GND (power) "Ground Terminal", 3 VCC (power) "Supply Voltage Terminal", 4 A1 (in) "Address Select Inputs. Determines I2C slave address. Slave address is 01010A1A0X. (See the Slave Address Byte and Address Pins section for details).", 5 A0 (in) "Address Select Inputs. Determines I2C slave address. Slave address is 01010A1A0X. (See the Slave Address Byte and Address Pins section for details).", 6 RH "High Terminal of Potentiometer", 7 RW "Wiper Terminal of Potentiometer", 8 RL "Low Terminal of Potentiometer", 9 V+ (power) "Wiper Bias Voltage", 10 SCL (in) "I2C Serial Clock. Input for I2C clock."

## DS3901E+
designator U?
Triple, 8-Bit NV Variable Resistor with User EEPROM with I2C Control Interface, Non-Volatile, Linear Taper, 256 Steps, -40 to 85 degC, 14-pin TSSOP (U14+1), Pb-Free; PartNumber: DS3901E+; DatasheetVersion: Rev. 0; PackageVersion: Rev. L, 07/2010; PackageReference: U14+1; PackageDescription: 14-Pin Thin Shrink Small-Outline Package (U14+1), Body 5 x 4.4 mm, Pitch 0.65 mm; Supplier 1: Digi-Key; Supplier Part Number 1: DS3901E+-ND; Supplier 2: Mouser; Supplier Part Number 2: 700-DS3901E; Applications: Bias Adjustment, Fiber Communications ,Fibre Optic Modules; Control Interface: I2C; Features: 232Byte User EEPROM; Mounting Technology: Surface Mount; Code_JEDEC: MO-153; ComponentLink1Description: Manufacturer URL; ComponentLink1URL: http://www.maximintegrated.com/; ComponentLink2Description: Datasheet; ComponentLink2URL: http://datasheets.maximintegrated.com/en/ds/DS3901.pdf; ComponentLink3Description: Package Specification; ComponentLink3URL: http://pdfserv.maximintegrated.com/package_dwgs/21-0066.PDF
footprint MAXM-U14+1_N (SOP, 14-Leads, Body 5x4.4mm, Pitch 0.65mm, IPC Medium Density)
footprint MAXM-U14+1_L (SOP, 14-Leads, Body 5x4.4mm, Pitch 0.65mm, IPC High Density)
footprint MAXM-U14+1_M (SOP, 14-Leads, Body 5x4.4mm, Pitch 0.65mm, IPC Low Density)
pins: 1 SCL (in) "I2C Clock Input", 2 SDA (io) "I2C Data I/O Pin", 3 ADD_SEL (in) "I2C Slave Address Select Pin", 4 BK_SEL (in) "Bank Select Pin. This pin has an internal pulldown resistor, RBK.", 5 DIS (in) "High-Impedance Disable Input. This pin has an internal pullup resistor, RDIS.", 6 NC "No Connection", 7 GND (power) "Ground", 8 L0 "Resistor 0 Low Terminal", 9 H0 "Resistor 0 High Terminal", 10 H1 "Resistor 1 High Terminal", 11 L2 "Resistor 2 Low Terminal", 12 H2 "Resistor 2 High Terminal", 13 NC "No Connection", 14 VCC (power) "Voltage Supply"

## DS3901E+T&R
designator U?
Triple, 8-Bit NV Variable Resistor with User EEPROM with I2C Control Interface, Non-Volatile, Linear Taper, 256 Steps, -40 to 85 degC, 14-pin TSSOP (U14+1), Pb-Free, Tape and Reel; PartNumber: DS3901E+T&R; DatasheetVersion: Rev. 0; PackageVersion: Rev. L, 07/2010; PackageReference: U14+1; PackageDescription: 14-Pin Thin Shrink Small-Outline Package (U14+1), Body 5 x 4.4 mm, Pitch 0.65 mm; Supplier 1: Digi-Key; Supplier Part Number 1: DS3901E+T&R-ND; Supplier 2: Mouser; Supplier Part Number 2: 700-DS3901ET&R; Applications: Bias Adjustment, Fiber Communications ,Fibre Optic Modules; Control Interface: I2C; Features: 232Byte User EEPROM; Mounting Technology: Surface Mount; Code_JEDEC: MO-153; ComponentLink1Description: Manufacturer URL; ComponentLink1URL: http://www.maximintegrated.com/; ComponentLink2Description: Datasheet; ComponentLink2URL: http://datasheets.maximintegrated.com/en/ds/DS3901.pdf; ComponentLink3Description: Package Specification; ComponentLink3URL: http://pdfserv.maximintegrated.com/package_dwgs/21-0066.PDF
footprint MAXM-U14+1_N (SOP, 14-Leads, Body 5x4.4mm, Pitch 0.65mm, IPC Medium Density)
footprint MAXM-U14+1_L (SOP, 14-Leads, Body 5x4.4mm, Pitch 0.65mm, IPC High Density)
footprint MAXM-U14+1_M (SOP, 14-Leads, Body 5x4.4mm, Pitch 0.65mm, IPC Low Density)
pins: 1 SCL (in) "I2C Clock Input", 2 SDA (io) "I2C Data I/O Pin", 3 ADD_SEL (in) "I2C Slave Address Select Pin", 4 BK_SEL (in) "Bank Select Pin. This pin has an internal pulldown resistor, RBK.", 5 DIS (in) "High-Impedance Disable Input. This pin has an internal pullup resistor, RDIS.", 6 NC "No Connection", 7 GND (power) "Ground", 8 L0 "Resistor 0 Low Terminal", 9 H0 "Resistor 0 High Terminal", 10 H1 "Resistor 1 High Terminal", 11 L2 "Resistor 2 Low Terminal", 12 H2 "Resistor 2 High Terminal", 13 NC "No Connection", 14 VCC (power) "Voltage Supply"

## DS3902U-515+
designator U?
Dual, NV, Variable Resistors with User EEPROM with 2-Wire Addressable Control Interface, Non-Volatile, Linear Taper, 256 Steps, -40 to 85 degC, 8-pin uMAX (U8+1), Pb-Free; PartNumber: DS3902U-515+; DatasheetVersion: Rev. 1; PackageVersion: Rev. L, 08/2009; PackageReference: U8+1; PackageDescription: 8-Pin Micro-MAX, Thin Shrink Small-Outline (U8+1), Body 3 x 3 mm, Pitch 0.65 mm; Supplier 1: Digi-Key; Supplier Part Number 1: DS3902U-515+-ND; Supplier 2: Mouser; Supplier Part Number 2: 700-DS3902U-515; Applications: Fiber Communications, Power Supply Cal.; Control Interface: 2-Wire Addressable; Features: EEPROM Wiper Memory; Mounting Technology: Surface Mount; Code_JEDEC: MO-187; ComponentLink1Description: Manufacturer URL; ComponentLink1URL: http://www.maximintegrated.com/; ComponentLink2Description: Datasheet; ComponentLink2URL: http://datasheets.maximintegrated.com/en/ds/DS3902.pdf; ComponentLink3Description: Package Specification; ComponentLink3URL: http://pdfserv.maximintegrated.com/package_dwgs/21-0036.PDF
footprint MAXM-U8+1_N (SOP, 8-Leads, Body 3x3mm, Pitch 0.65mm, IPC Medium Density)
footprint MAXM-U8+1_L (SOP, 8-Leads, Body 3x3mm, Pitch 0.65mm, IPC High Density)
footprint MAXM-U8+1_M (SOP, 8-Leads, Body 3x3mm, Pitch 0.65mm, IPC Low Density)
pins: 1 H0 "Resistor 0 High Terminal", 2 SDA (io) "I2C Serial-Data Open-Drain Input/Output", 3 SCL (in) "I2C Serial-Clock Input", 4 GND (power) "Ground", 5 ADD_SEL (in) "Address Select", 6 H1 "Resistor 1 High Terminal", 7 NC "No Connection", 8 VCC (power) "Power-Supply Voltage"

## DS3902U-530+
designator U?
Dual, NV, Variable Resistors with User EEPROM with 2-Wire Addressable Control Interface, Non-Volatile, Linear Taper, 256 Steps, -40 to 85 degC, 8-pin uMAX (U8+1), Pb-Free; PartNumber: DS3902U-530+; DatasheetVersion: Rev. 1; PackageVersion: Rev. L, 08/2009; PackageReference: U8+1; PackageDescription: 8-Pin Micro-MAX, Thin Shrink Small-Outline (U8+1), Body 3 x 3 mm, Pitch 0.65 mm; Supplier 1: Digi-Key; Supplier Part Number 1: DS3902U-530+-ND; Supplier 2: Mouser; Supplier Part Number 2: 700-DS3902U-530; Applications: Fiber Communications, Power Supply Cal.; Control Interface: 2-Wire Addressable; Features: EEPROM Wiper Memory; Mounting Technology: Surface Mount; Code_JEDEC: MO-187; ComponentLink1Description: Manufacturer URL; ComponentLink1URL: http://www.maximintegrated.com/; ComponentLink2Description: Datasheet; ComponentLink2URL: http://datasheets.maximintegrated.com/en/ds/DS3902.pdf; ComponentLink3Description: Package Specification; ComponentLink3URL: http://pdfserv.maximintegrated.com/package_dwgs/21-0036.PDF
footprint MAXM-U8+1_N (SOP, 8-Leads, Body 3x3mm, Pitch 0.65mm, IPC Medium Density)
footprint MAXM-U8+1_L (SOP, 8-Leads, Body 3x3mm, Pitch 0.65mm, IPC High Density)
footprint MAXM-U8+1_M (SOP, 8-Leads, Body 3x3mm, Pitch 0.65mm, IPC Low Density)
pins: 1 H0 "Resistor 0 High Terminal", 2 SDA (io) "I2C Serial-Data Open-Drain Input/Output", 3 SCL (in) "I2C Serial-Clock Input", 4 GND (power) "Ground", 5 ADD_SEL (in) "Address Select", 6 H1 "Resistor 1 High Terminal", 7 NC "No Connection", 8 VCC (power) "Power-Supply Voltage"

## DS3903E-020
designator U?
Triple 128-Position Digital Potentiometer with 2-Wire Addressable Control Interface, Non-Volatile, Linear Taper, -40 to 85 degC, 20-pin TSSOP (U20-1); PartNumber: DS3903E-020; DatasheetVersion: Rev. 0; PackageVersion: Rev. L, 07/2010; PackageReference: U20-1; PackageDescription: 20-Pin Thin Shrink Small-Outline Package (U20-1), Body 6.5 x 4.4 mm, Pitch 0.65 mm; Supplier 1: Mouser; Supplier Part Number 1: N/A; Applications: Fiber Communications, Power Supply Cal.; Control Interface: 2-Wire Addressable; Features: EEPROM Wiper Memory; Mounting Technology: Surface Mount; Code_JEDEC: MO-153; ComponentLink1Description: Manufacturer URL; ComponentLink1URL: http://www.maximintegrated.com/; ComponentLink2Description: Datasheet; ComponentLink2URL: http://datasheets.maximintegrated.com/en/ds/DS3903.pdf; ComponentLink3Description: Package Specification; ComponentLink3URL: http://pdfserv.maximintegrated.com/package_dwgs/21-0066.PDF
footprint MAXM-U20-1_N (SOP, 20-Leads, Body 6.5x4.40mm, Pitch 0.65mm, IPC Medium Density)
footprint MAXM-U20-1_L (SOP, 20-Leads, Body 6.5x4.40mm, Pitch 0.65mm, IPC High Density)
footprint MAXM-U20-1_M (SOP, 20-Leads, Body 6.5x4.40mm, Pitch 0.65mm, IPC Low Density)
pins: 1 SDA (io) "2-Wire Serial Data. Input/output for 2-wire data.", 2 SCL (in) "2-Wire Serial Clock. Input for 2-wire clock.", 3 A0 (in) "Address-Select Input. Determines device 2-wire address.", 4 WP (in) "Write-Protect Input. Must be grounded to write to the potentiometer registers. An internal pullup locks the potentiometer positions if this pin is not connected.", 5 NC "No Connection", 6 L0 "Potentiometer Low Terminals. Voltages on these pins should remain between GND and +5.5V while VCC is above +2.7V. Low terminals can be at potentials above the wiper or high terminals.", 7 W1 "Potentiometer Wiper Terminal. Voltages on these pins should remain between GND and +5.5V while VCC is above +2.7V.", 8 L1 "Potentiometer Low Terminals. Voltages on these pins should remain between GND and +5.5V while VCC is above +2.7V. Low terminals can be at potentials above the wiper or high terminals.", 9 L2 "Potentiometer Low Terminals. Voltages on these pins should remain between GND and +5.5V while VCC is above +2.7V. Low terminals can be at potentials above the wiper or high terminals.", 10 GND (power) "Ground Terminal", 11 H2 "Potentiometer High Terminals. Voltages on these pins should remain between GND and +5.5V while VCC is above +2.7V. High terminals can be at potentials below the low terminals.", 12 W2 "Potentiometer Wiper Terminal. Voltages on these pins should remain between GND and +5.5V while VCC is above +2.7V.", 13 H1 "Potentiometer High Terminals. Voltages on these pins should remain between GND and +5.5V while VCC is above +2.7V. High terminals can be at potentials below the low terminals.", 14 W0 "Potentiometer Wiper Terminal. Voltages on these pins should remain between GND and +5.5V while VCC is above +2.7V.", 15 H0 "Potentiometer High Terminals. Voltages on these pins should remain between GND and +5.5V while VCC is above +2.7V. High terminals can be at potentials below the low terminals.", 16 NC "No Connection", 17 NC "No Connection", 18 NC "No Connection", 19 NC "No Connection", 20 VCC (power) "Supply Voltage Terminal"

## DS3903E-020+
designator U?
Triple 128-Position Digital Potentiometer with 2-Wire Addressable Control Interface, Non-Volatile, Linear Taper, -40 to 85 degC, 20-pin TSSOP (U20+1), Pb-Free; PartNumber: DS3903E-020+; DatasheetVersion: Rev. 0; PackageVersion: Rev. L, 07/2010; PackageReference: U20+1; PackageDescription: 20-Pin Thin Shrink Small-Outline Package (U20+1), Body 6.5 x4.4 mm, Pitch 0.65 mm; Supplier 1: Digi-Key; Supplier Part Number 1: DS3903E-020+-ND; Supplier 2: Mouser; Supplier Part Number 2: 700-DS3903E-020; Applications: Fiber Communications, Power Supply Cal.; Control Interface: 2-Wire Addressable; Features: EEPROM Wiper Memory; Mounting Technology: Surface Mount; Code_JEDEC: MO-153; ComponentLink1Description: Manufacturer URL; ComponentLink1URL: http://www.maximintegrated.com/; ComponentLink2Description: Datasheet; ComponentLink2URL: http://datasheets.maximintegrated.com/en/ds/DS3903.pdf; ComponentLink3Description: Package Specification; ComponentLink3URL: http://pdfserv.maximintegrated.com/package_dwgs/21-0066.PDF
footprint MAXM-U20+1_N (SOP, 20-Leads, Body 6.5x4.4mm, Pitch 0.65mm, IPC Medium Density)
footprint MAXM-U20+1_L (SOP, 20-Leads, Body 6.5x4.4mm, Pitch 0.65mm, IPC High Density)
footprint MAXM-U20+1_M (SOP, 20-Leads, Body 6.5x4.4mm, Pitch 0.65mm, IPC Low Density)
pins: 1 SDA (io) "2-Wire Serial Data. Input/output for 2-wire data.", 2 SCL (in) "2-Wire Serial Clock. Input for 2-wire clock.", 3 A0 (in) "Address-Select Input. Determines device 2-wire address.", 4 WP (in) "Write-Protect Input. Must be grounded to write to the potentiometer registers. An internal pullup locks the potentiometer positions if this pin is not connected.", 5 NC "No Connection", 6 L0 "Potentiometer Low Terminals. Voltages on these pins should remain between GND and +5.5V while VCC is above +2.7V. Low terminals can be at potentials above the wiper or high terminals.", 7 W1 "Potentiometer Wiper Terminal. Voltages on these pins should remain between GND and +5.5V while VCC is above +2.7V.", 8 L1 "Potentiometer Low Terminals. Voltages on these pins should remain between GND and +5.5V while VCC is above +2.7V. Low terminals can be at potentials above the wiper or high terminals.", 9 L2 "Potentiometer Low Terminals. Voltages on these pins should remain between GND and +5.5V while VCC is above +2.7V. Low terminals can be at potentials above the wiper or high terminals.", 10 GND (power) "Ground Terminal", 11 H2 "Potentiometer High Terminals. Voltages on these pins should remain between GND and +5.5V while VCC is above +2.7V. High terminals can be at potentials below the low terminals.", 12 W2 "Potentiometer Wiper Terminal. Voltages on these pins should remain between GND and +5.5V while VCC is above +2.7V.", 13 H1 "Potentiometer High Terminals. Voltages on these pins should remain between GND and +5.5V while VCC is above +2.7V. High terminals can be at potentials below the low terminals.", 14 W0 "Potentiometer Wiper Terminal. Voltages on these pins should remain between GND and +5.5V while VCC is above +2.7V.", 15 H0 "Potentiometer High Terminals. Voltages on these pins should remain between GND and +5.5V while VCC is above +2.7V. High terminals can be at potentials below the low terminals.", 16 NC "No Connection", 17 NC "No Connection", 18 NC "No Connection", 19 NC "No Connection", 20 VCC (power) "Supply Voltage Terminal"